# EAGLE library part DOTSTARLED (library Manual-V2)
DotStar LED Chip https://cdn-shop.adafruit.com/product-files/2343/SK9822_SHIJI.pdf
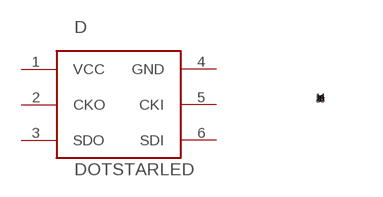
[diagram p0: symbol with the pads of DOTSTARLED; footprint DOTSTARLED]

Designator prefix D

## DOTSTARLED  [DOTSTARLED]
1  VCC
2  CKO
3  SDO
4  GND
5  CKI
6  SDI

## Footprint DOTSTARLED (pad centres in mm)
smd 0.025 x 0.025: 1 -0.051,0.066; 2 -0.051,0.025; 3 -0.051,-0.015; 4 0.051,0.066; 5 0.051,0.025; 6 0.051,-0.015